# EAGLE library part 50499-008 (library con-aces-50499-series)
ACES CONNECTORS 50499 SERIES ACES Connecors 50499 <https://www.acesconn.com/series/50499-xxxxx-xxx/1229>
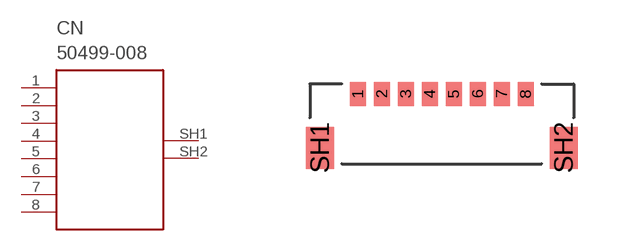
[diagram p4: symbol with the pads of 50499-008; footprint 50499-008]

Designator prefix CN

## 50499-008  [50499-008]
1  1
2  2
3  3
4  4
5  5
6  6
7  7
8  8
SH1  SH1
SH2  SH2

## Footprint 50499-008 (pad centres in mm)
smd 0.4 x 0.6: 1 -2.1,0; 2 -1.5,0; 3 -0.9,0; 4 -0.3,0; 5 0.3,0; 6 0.9,0; 7 1.5,0; 8 2.1,0
smd 0.7 x 1.05: SH1 -3.05,-1.35; SH2 3.05,-1.35